# Altium footprint library WE-PLN.PcbLib: 5 footprints
Each footprint in its own frame and in the unit in brackets; x right, y up, seen from the top. Pads: shape width x height; smd on the part's side, far side on the other; paste and mask are expansions set on the pad; w line width, h text height; cw(c..) or ccw(c..) is an arc to the next point about the centre after c.
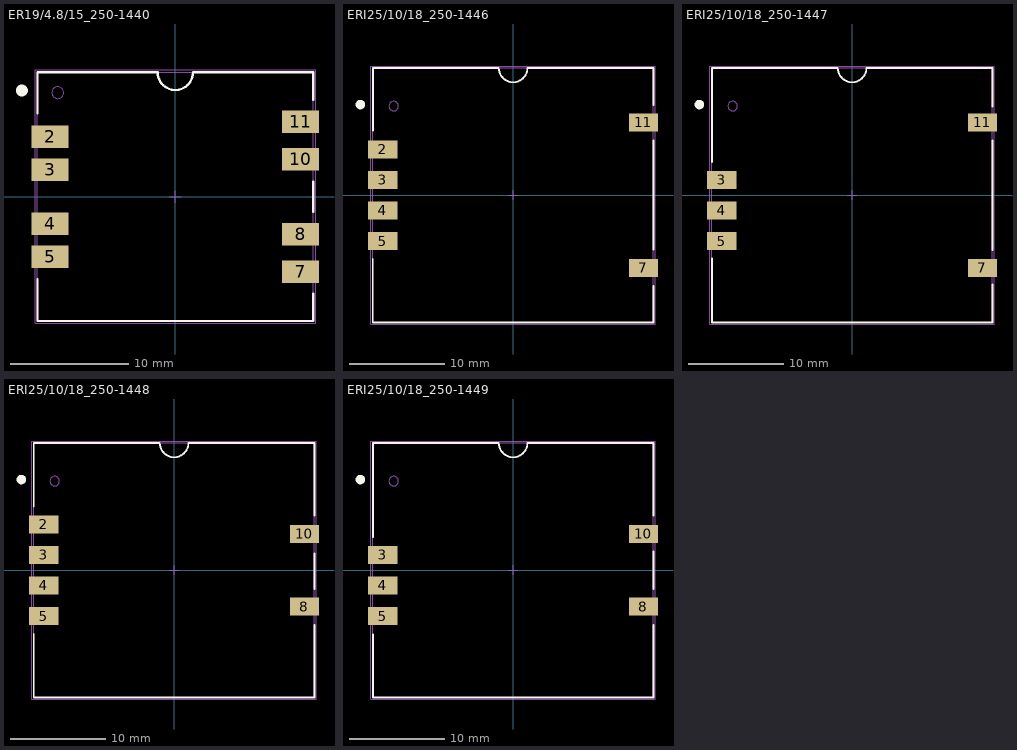
[diagram p0: the footprints below, top view; thin cyan lines are the x and y axes]

## ER19/4.8/15_250-1440 [mm]
pads (8):
  rect 3.13x1.89 smd: 2(-10.615,5.085) 3(-10.615,2.285) 4(-10.615,-2.285) 5(-10.615,-5.085) 7(10.615,-6.36) 8(10.615,-3.18) 10(10.615,3.18) 11(10.615,6.36)
Top Overlay:
  circle w0.5: c-13,9 r0.25
  lines w0.2: -11.685,-7.013 -11.685,-10.54 11.685,-10.54 11.685,-8.24 ; -11.685,7.074 -11.685,10.54 -7.09,10.54 -1.5,10.54 ccw(c0,10.54) 1.5,10.54 11.685,10.54 11.685,8.206 ; 11.685,-1.302 11.685,1.288
Top Assembly:
  circle w0.1: c-9.968,8.818 r0.5
  lines w0.1: -11.685,-10.54 -11.685,10.54 11.685,10.54 11.685,-10.54 11.648,-10.54 -3.057,-10.54 -11.685,-10.54
Top Designator:
  text ".Designator" at -3.647,-0.357 h1
Top 3D Body:
  circle w0.1: c-9.968,8.818 r0.5
  lines w0.1: -11.685,-10.54 -11.685,10.54 11.685,10.54 11.685,-10.54 -11.685,-10.54
Top Courtyard:
  lines w0.05: -11.885,-10.74 11.885,-10.74 11.885,10.74 -11.885,10.74 -11.885,-10.74
Top Component Center:
  lines w0.1: -0.5,0 0.5,0 ; 0,-0.5 0,0.5
3D body "Download_STP_250-1440 (rev1).STEP": height 10.25, standoff 0.05, extent -11.681,-9.931 11.639,9.785

## ERI25/10/18_250-1446 [mm]
pads (6):
  rect 3.05x1.89 smd: 2(-13.655,4.8) 3(-13.655,1.6) 4(-13.655,-1.6) 5(-13.655,-4.8) 7(13.655,-7.62) 11(13.655,7.62)
Top Overlay:
  circle w0.5: c-16,9.5 r0.25
  lines w0.2: -14.705,-13.335 -14.705,-6.668 ; -14.693,-13.335 14.705,-13.335 14.705,-9.514 ; -14.693,6.78 -14.693,13.335 -4.295,13.335 -1.5,13.335 ccw(c0,13.335) 1.5,13.335 14.705,13.335 14.705,9.468 ; 14.705,-5.702 14.705,5.723
Top Assembly:
  circle w0.1: c-12.507,9.338 r0.5
  lines w0.1: -14.693,-13.335 -10.147,-13.335 4.558,-13.335 14.705,-13.335 14.705,13.335 -14.693,13.335 -14.693,-13.335
Top Designator:
  text ".Designator" at -3.647,-0.357 h1
Top 3D Body:
  circle w0.1: c-12.507,9.338 r0.5
  lines w0.1: -14.705,-13.335 14.705,-13.335 14.705,13.335 -14.705,13.335 -14.705,-13.335
Top Courtyard:
  lines w0.05: -14.905,-13.535 -14.905,13.535 14.905,13.535 14.905,-13.535 -14.905,-13.535
Top Component Center:
  lines w0.1: -0.5,0 0.5,0 ; 0,-0.5 0,0.5
3D body "Download_STP_250-1446_750341134 (rev1).STEP": height 10.15, standoff 0, extent -14.716,-13.024 14.684,12.176

## ERI25/10/18_250-1447 [mm]
pads (5):
  rect 3.05x1.89 smd: 3(-13.655,1.6) 4(-13.655,-1.6) 5(-13.655,-4.8) 7(13.655,-7.62) 11(13.655,7.62)
Top Overlay:
  circle w0.5: c-16,9.5 r0.25
  lines w0.2: -14.693,-6.649 -14.693,-13.335 14.705,-13.335 14.705,-9.347 ; -14.693,3.5 -14.693,13.335 -4.295,13.335 -1.5,13.335 ccw(c0,13.335) 1.5,13.335 14.705,13.335 14.705,9.3 ; 14.705,-5.768 14.705,5.743
Top Assembly:
  circle w0.1: c-12.507,9.338 r0.5
  lines w0.1: -14.693,-13.335 -10.147,-13.335 4.558,-13.335 14.705,-13.335 14.705,13.335 -14.693,13.335 -14.693,-13.335
Top Designator:
  text ".Designator" at -3.647,-0.357 h1
Top 3D Body:
  circle w0.1: c-12.507,9.338 r0.5
  lines w0.1: -14.705,-13.335 14.705,-13.335 14.705,13.335 -14.705,13.335 -14.705,-13.335
Top Courtyard:
  lines w0.05: -14.905,-13.535 -14.905,13.535 14.905,13.535 14.905,-13.535 -14.905,-13.535
Top Component Center:
  lines w0.1: -0.5,0 0.5,0 ; 0,-0.5 0,0.5
3D body "Download_STP_250-1447_750341143 (rev1).STEP": height 10.15, standoff 0, extent -14.716,-12.878 14.684,12.322

## ERI25/10/18_250-1448 [mm]
pads (6):
  rect 3.05x1.89 smd: 2(-13.655,4.8) 3(-13.655,1.6) 4(-13.655,-1.6) 5(-13.655,-4.8) 8(13.655,-3.81) 10(13.655,3.81)
Top Overlay:
  circle w0.5: c-16,9.5 r0.25
  lines w0.2: -14.705,-6.653 -14.705,-13.335 14.705,-13.335 14.705,-5.731 ; -14.705,6.653 -14.705,13.335 -4.295,13.335 -1.5,13.335 ccw(c0,13.335) 1.5,13.335 14.705,13.335 14.705,5.744 ; 14.705,-1.95 14.705,1.773
Top Assembly:
  circle w0.1: c-12.507,9.338 r0.5
  lines w0.1: -14.693,-13.335 -14.693,13.335 14.705,13.335 14.705,-13.335 4.558,-13.335 -10.147,-13.335 -14.693,-13.335
Top Designator:
  text ".Designator" at -3.647,-0.357 h1
Top 3D Body:
  circle w0.1: c-12.507,9.338 r0.5
  lines w0.1: -14.705,-13.335 -14.705,13.335 14.705,13.335 14.705,-13.335 -14.705,-13.335
Top Courtyard:
  lines w0.05: -14.905,-13.535 14.905,-13.535 14.905,13.535 -14.905,13.535 -14.905,-13.535
Top Component Center:
  lines w0.1: -0.5,0 0.5,0 ; 0,-0.5 0,0.5
3D body "Download_STP_250-1448_750341140 (rev1).STEP": height 10.15, standoff 0, extent -14.716,-12.878 14.684,12.322

## ERI25/10/18_250-1449 [mm]
pads (5):
  rect 3.05x1.89 smd: 3(-13.655,1.6) 4(-13.655,-1.6) 5(-13.655,-4.8) 8(13.655,-3.81) 10(13.655,3.81)
Top Overlay:
  circle w0.5: c-16,9.5 r0.25
  lines w0.2: -14.693,-6.741 -14.693,-13.335 14.705,-13.335 14.705,-5.72 ; -14.693,3.5 -14.693,13.335 -4.295,13.335 -1.5,13.335 ccw(c0,13.335) 1.5,13.335 14.705,13.335 14.705,5.72 ; 14.705,-1.992 14.705,1.986
Top Assembly:
  circle w0.1: c-12.507,9.338 r0.5
  lines w0.1: -14.705,-13.335 -14.705,13.335 14.705,13.335 14.705,-13.335 4.558,-13.335 -10.147,-13.335 -14.705,-13.335
Top Designator:
  text ".Designator" at -3.647,-0.357 h1
Top 3D Body:
  circle w0.1: c-12.507,9.338 r0.5
  lines w0.1: -14.705,-13.335 -14.705,13.335 14.705,13.335 14.705,-13.335 -14.705,-13.335
Top Courtyard:
  lines w0.05: -14.905,-13.535 14.905,-13.535 14.905,13.535 -14.905,13.535 -14.905,-13.535
Top Component Center:
  lines w0.1: -0.5,0 0.5,0 ; 0,-0.5 0,0.5
3D body "Download_STP_250-1449_750341139 (rev1).STEP": height 10.15, standoff 0, extent -14.716,-12.878 14.684,12.322